# Altium footprint library rcl.PCBLIB: 487 footprints (part 26 of 31)
Each footprint in its own frame and in the unit in brackets; x right, y up, seen from the top. Pads: shape width x height; smd on the part's side, far side on the other; paste and mask are expansions set on the pad; w line width, h text height; cw(c..) or ccw(c..) is an arc to the next point about the centre after c.
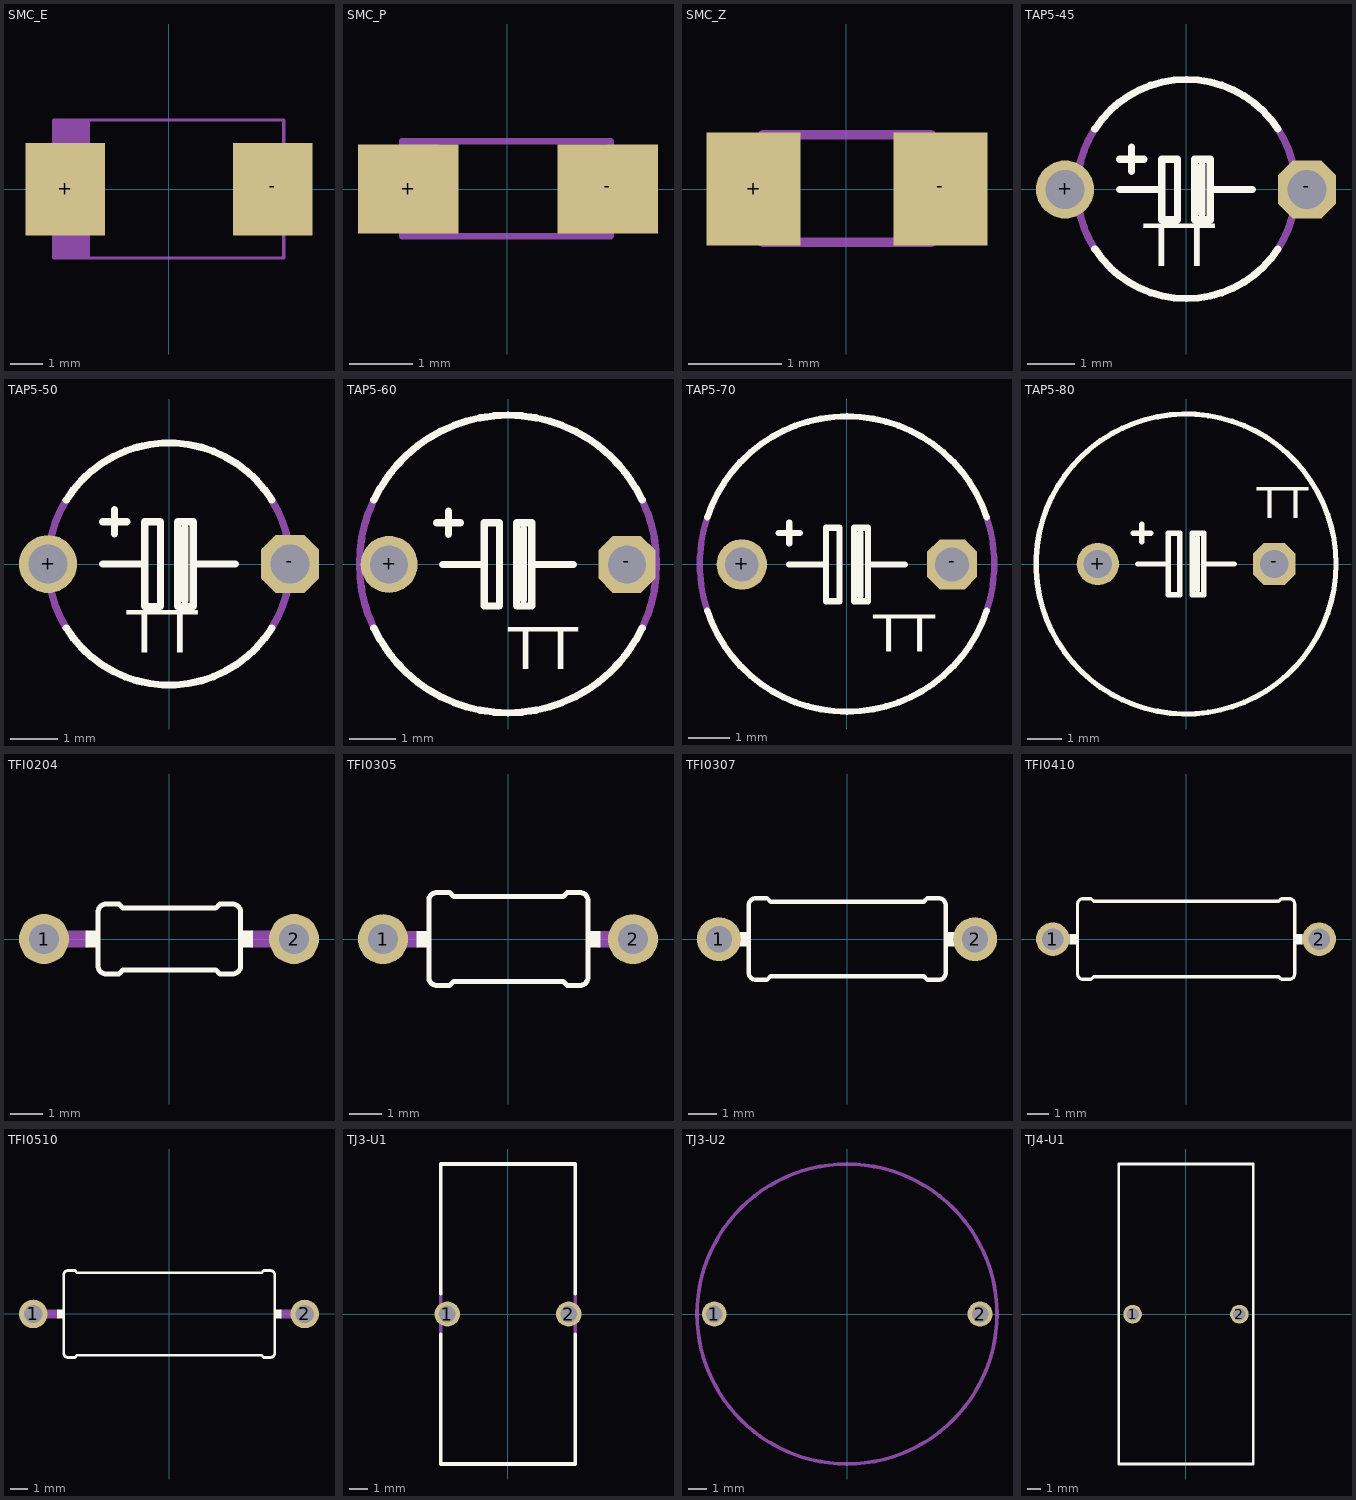
[diagram p25: the footprints below, top view; thin cyan lines are the x and y axes]

## SMC_E [mil]
pads (2):
  rect 95x111 smd: +(-124.02,0) -(125,0)
Mechanical 16:
  rectangle: -143.7,-47.24 -135.83,48
  region: 144,48 136,48 136,-47.24 144,-47.24
  rectangle: -137.8,-82.68 -94.49,83
  lines w4: -137.8,-82.68 138,-82.68 138,83 -137.8,83 -137.8,-82.68

## SMC_P [mil]
pads (2):
  rect 63x56 smd: +(-62.01,0) -(63,0)
Mechanical 16:
  rectangle: -70.87,-17.72 -66.93,18
  region: 71,18 67,18 67,-17.72 71,-17.72
  rectangle: -64.96,-29.53 -42.32,29
  lines w4: -65.94,-29.53 65,-29.53 65,30 -65.94,30 -65.94,-29.53

## SMC_Z [mil]
pads (2):
  rect 40x48 smd: +(-39.37,0) -(40,0)
Mechanical 16:
  rectangle: -39.37,-17.72 -35.43,18
  region: 40,18 36,18 36,-17.72 40,-17.72
  rectangle: -35.43,-23.62 -19.68,24
  lines w4: -35.43,-22.64 36,-22.64 36,23 -35.43,23 -35.43,-22.64

## TAP5-45 [mil]
pads (2):
  round 48 hole 32: +(-100,0)
  oct 48x48 hole 32: -(100,0)
Top Overlay:
  lines w6: -75.37,-49.18 ccw(c0.32,0.21) 76,-49.18 ; -75.37,50 cw(c0.32,0.61) 76,50 ; -55,0 -20,0 ; -55,25 -35,25 ; -45,15 -45,35 ; 13,-20 13,20 ; 55,0 20,0 ; -20,0 -20,-25 -7,-25 -7,25 -20,25 -20,0 ; 20,0 20,-25 7,-25 7,25 20,25 20,0
  text "TT" at -35,-75 h60.45
Mechanical 16:
  lines w6: -75.37,-49.18 cw(c0.63,0.41) -75.37,50 ; 76,-49.18 ccw(c0,0.41) 76,50

## TAP5-50 [mil]
pads (2):
  round 48 hole 32: +(-100,0)
  oct 48x48 hole 32: -(100,0)
Top Overlay:
  lines w6: -84.87,-52.88 ccw(c0.07,0.04) 85,-52.88 ; -84.87,53 cw(c0.07,0.08) 85,53 ; -55,0 -20,0 ; -55,35 -35,35 ; -45,25 -45,45 ; 13,-30 13,30 ; 55,0 20,0 ; -20,0 -20,-35 -7,-35 -7,35 -20,35 -20,0 ; 20,0 20,-35 7,-35 7,35 20,35 20,0
  text "TT" at -35,-85 h60.45
Mechanical 16:
  lines w6: -84.87,-52.88 cw(c0.09,0.06) -84.87,53 ; 85,-52.88 ccw(c0.04,0.06) 85,53

## TAP5-60 [mil]
pads (2):
  round 48 hole 32: +(-100,0)
  oct 48x48 hole 32: -(100,0)
Top Overlay:
  lines w6: -113,-53.44 ccw(c0,0) 113,-53.44 ; -113,54 cw(c0,0.56) 113,54 ; -60,35 -40,35 ; -55,0 -20,0 ; -50,25 -50,45 ; 13,-30 13,30 ; 55,0 20,0 ; -20,0 -20,-35 -7,-35 -7,35 -20,35 -20,0 ; 20,0 20,-35 7,-35 7,35 20,35 20,0
  text "TT" at 0,-100 h60.45
Mechanical 16:
  lines w6: -113,-53.44 cw(c0.59,0.28) -113,54 ; 113,-53.44 ccw(c-0.59,0.28) 113,54

## TAP5-70 [mil]
pads (2):
  round 48 hole 32: +(-100,0)
  oct 48x48 hole 32: -(100,0)
Top Overlay:
  lines w6: -132.87,-44.09 ccw(c0.07,0.02) 133,-44.09 ; -132.87,45 cw(c0.07,0.89) 133,45 ; -65,30 -45,30 ; -55,0 -20,0 ; -55,20 -55,40 ; 13,-30 13,30 ; 55,0 20,0 ; -20,0 -20,-35 -7,-35 -7,35 -20,35 -20,0 ; 20,0 20,-35 7,-35 7,35 20,35 20,0
  text "TT" at 25,-95 h60.45
Mechanical 16:
  lines w6: -132.87,-44.09 cw(c1.37,0.45) -132.87,45 ; 133,-44.09 ccw(c-1.24,0.45) 133,45

## TAP5-80 [mil]
pads (2):
  round 48 hole 32: +(-100,0)
  oct 48x48 hole 32: -(100,0)
Top Overlay:
  circle w6: c0,0 r170
  lines w6: -60,35 -40,35 ; -55,0 -20,0 ; -50,25 -50,45 ; 13,-30 13,30 ; 55,0 20,0 ; -20,0 -20,-35 -7,-35 -7,35 -20,35 -20,0 ; 20,0 20,-35 7,-35 7,35 20,35 20,0
  text "TT" at 80,40 h60.45

## TFI0204 [mil]
pads (2):
  round 60 hole 36: 1(-150,0) 2(150,0)
Top Overlay:
  rectangle: 86,-10 101,10
  rectangle: -100.24,-10 -85.24,10
  lines w6: -85.24,-31.97 ccw(c-75.24,-31.97) -75.24,-41.97 -60.24,-41.97 -55.24,-36.97 56,-36.97 61,-41.97 76,-41.97 ccw(c76,-31.97) 86,-31.97 86,32 ccw(c76,32) 76,42 61,42 56,37 -55.24,37 -60.24,42 -75.24,42 ccw(c-75.24,32) -85.24,32 -85.24,-31.97
Mechanical 16:
  lines w20: -150,0 -100,0 ; 100,0 150,0

## TFI0305 [mil]
pads (2):
  round 60 hole 36: 1(-150,0) 2(150,0)
Top Overlay:
  rectangle: 96,-10 111,10
  rectangle: -110.08,-10 -95.08,10
  lines w6: -95.08,-45.75 ccw(c-85.08,-45.75) -85.08,-55.75 -70.08,-55.75 -65.08,-50.75 66,-50.75 71,-55.75 86,-55.75 ccw(c86,-45.75) 96,-45.75 96,46 ccw(c86,46) 86,56 71,56 66,51 -65.08,51 -70.08,56 -85.08,56 ccw(c-85.08,46) -95.08,46 -95.08,-45.75
Mechanical 16:
  lines w20: -150,0 -109.84,0 ; 110,0 150,0

## TFI0307 [mil]
pads (2):
  round 60 hole 36: 1(-175,0) 2(175,0)
Top Overlay:
  rectangle: 135,-10 150,10
  rectangle: -149.45,-10 -134.45,10
  lines w6: -134.45,-45.75 ccw(c-124.45,-45.75) -124.45,-55.75 -109.45,-55.75 -104.45,-50.75 105,-50.75 110,-55.75 125,-55.75 ccw(c125,-45.75) 135,-45.75 135,46 ccw(c125,46) 125,56 110,56 105,51 -104.45,51 -109.45,56 -124.45,56 ccw(c-124.45,46) -134.45,46 -134.45,-45.75
Mechanical 16:
  lines w20: -175,0 -149.21,0 ; 150,0 175,0

## TFI0410 [mil]
pads (2):
  round 63 hole 40: 1(-250,0) 2(250,0)
Top Overlay:
  rectangle: 204,-10 219,10
  rectangle: -218.35,-10 -203.35,10
  lines w6: -203.35,-65.43 ccw(c-193.35,-65.43) -193.35,-75.43 -178.35,-75.43 -173.35,-70.43 174,-70.43 179,-75.43 194,-75.43 ccw(c194,-65.43) 204,-65.43 204,66 ccw(c194,66) 194,76 179,76 174,71 -173.35,71 -178.35,76 -193.35,76 ccw(c-193.35,66) -203.35,66 -203.35,-65.43
Mechanical 16:
  lines w20: -250,0 -218.11,0 ; 219,0 250,0

## TFI0510 [mil]
pads (2):
  round 63 hole 40: 1(-300,0) 2(300,0)
Top Overlay:
  rectangle: 234,-10 249,10
  rectangle: -247.87,-10 -232.87,10
  lines w6: -232.87,-86.1 ccw(c-222.87,-86.1) -222.87,-96.1 -207.87,-96.1 -202.87,-91.1 204,-91.1 209,-96.1 224,-96.1 ccw(c224,-86.1) 234,-86.1 234,86 ccw(c224,86) 224,96 209,96 204,91 -202.87,91 -207.87,96 -222.87,96 ccw(c-222.87,86) -232.87,86 -232.87,-86.1
Mechanical 16:
  lines w20: -300,0 -247.64,0 ; 249,0 300,0

## TJ3-U1 [mil]
pads (2):
  round 54 hole 36: 1(-129.92,0) 2(130,0)
Top Overlay:
  lines w8: -143.7,-43.31 -143.7,-320.87 144,-320.87 144,-43.31 ; -143.7,44 -143.7,321 144,321 144,44
Mechanical 16:
  lines w8: -143.7,-43.31 -143.7,44 ; 144,-43.31 144,44

## TJ3-U2 [mil]
pads (2):
  round 54 hole 36: 1(-289.37,0) 2(290,0)
Mechanical 4:
  circle w8: c0,0 r327

## TJ4-U1 [mil]
pads (2):
  round 54 hole 36: 1(-154.92,0) 2(155,0)
Top Overlay:
  lines w8: -194.88,-435.04 195,-435.04 195,436 -194.88,436 -194.88,-435.04